# Altium footprint library Lichee-Nano(Footprint library).PcbLib: 1 footprints
Each footprint in its own frame and in the unit in brackets; x right, y up, seen from the top. Pads: shape width x height; smd on the part's side, far side on the other; paste and mask are expansions set on the pad; w line width, h text height; cw(c..) or ccw(c..) is an arc to the next point about the centre after c.
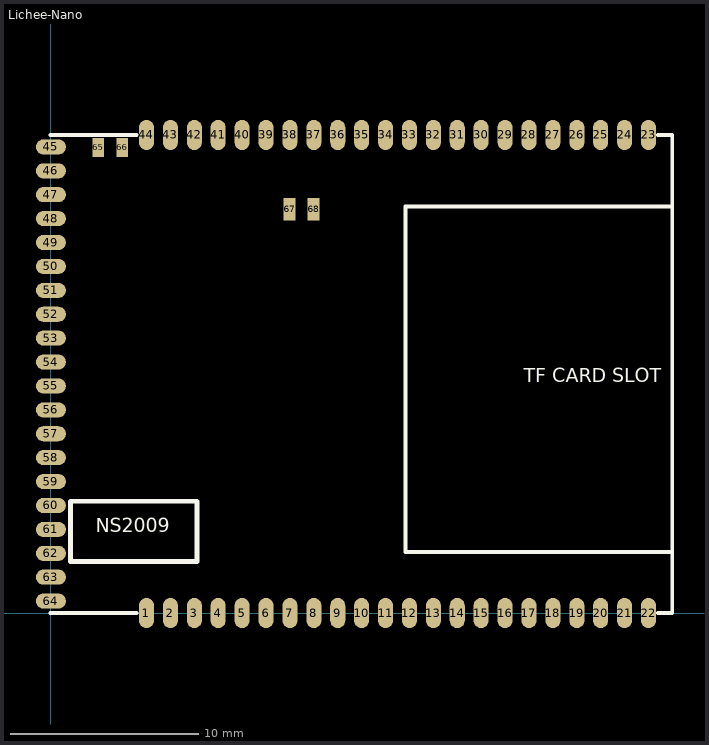
[diagram p0: the footprint, top view; thin cyan lines are the x and y axes]

## Lichee-Nano [mm]
height 1.75
pads (71):
  round 0 smd: 1(4.966,-0.406) 2(6.236,-0.406)
  oval 0.8x1.6 smd: 1(5.08,0) 2(6.35,0) 3(7.62,0) 4(8.89,0) 5(10.16,0) 6(11.43,0) 7(12.7,0) 8(13.97,0) 9(15.24,0) 10(16.51,0) 11(17.78,0) 12(19.05,0) 13(20.32,0) 14(21.59,0) 15(22.86,0) 16(24.13,0) 17(25.4,0) 18(26.67,0) 19(27.94,0) 20(29.21,0) 21(30.48,0) 22(31.75,0) 23(31.75,25.4) 24(30.48,25.4) 25(29.21,25.4) 26(27.94,25.4) 27(26.67,25.4) 28(25.4,25.4) 29(24.13,25.4) 30(22.86,25.4) 31(21.59,25.4) 32(20.32,25.4) 33(19.05,25.4) 34(17.78,25.4) 35(16.51,25.4) 36(15.24,25.4) 37(13.97,25.4) 38(12.7,25.4) 39(11.43,25.4) 40(10.16,25.4) 41(8.89,25.4) 42(7.62,25.4) 43(6.35,25.4) 44(5.08,25.4)
  round 0 all layers, no hole: 24(30.366,23.978)
  oval 1.6x0.8 smd: 45(0,24.765) 46(0,23.495) 47(0,22.225) 48(0,20.955) 49(0,19.685) 50(0,18.415) 51(0,17.145) 52(0,15.875) 53(0,14.605) 54(0,13.335) 55(0,12.065) 56(0,10.795) 57(0,9.525) 58(0,8.255) 59(0,6.985) 60(0,5.715) 61(0,4.445) 62(0,3.175) 63(0,1.905) 64(0,0.635)
  rect 0.6x1 smd: 65(2.515,24.74) 66(3.785,24.74)
  rect 0.635x1.2 smd: 67(12.687,21.463) 68(13.957,21.463)
Top Overlay:
  lines w0.203: -0.013,0 4.559,0 ; -0.013,25.4 4.559,25.4 ; 32.245,0 33.007,0 33.007,25.4 32.245,25.4 ; 33.007,3.251 31.178,3.251 18.847,3.251 18.847,21.59 31.737,21.59 33.007,21.59
  lines w0.254: 1.041,2.743 7.76,2.743 7.76,5.944 1.041,5.944 1.041,2.743
  text "TF CARD SLOT" at 25.121,11.989 h1.27
  text "NS2009" at 2.388,4.039 h1.27
3D body "lichee_nano.step": height 3.57, standoff -2.2, extent -0.114,-0.099 37.011,25.401